# EAGLE library part DIP-BLUE-FEMALE-HEADER-VERT(6P-2.0) (library Seeed-OPL-Connector)
320030044
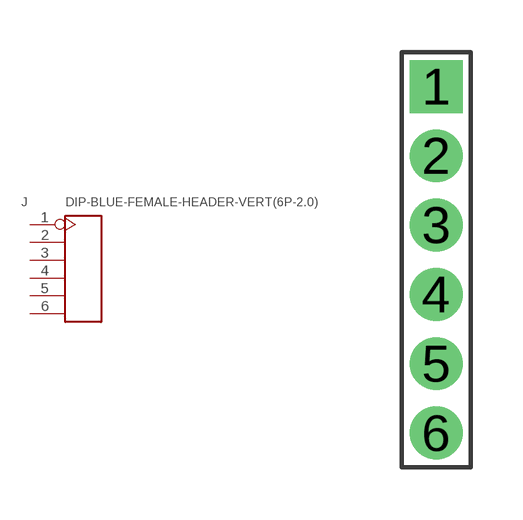
[diagram p162: symbol with the pads of H6-2.0; footprint H6-2.0]

Designator prefix J

## DIP-BLUE-FEMALE-HEADER-VERT(6P-2.0) (MPN: F243-1106A0BSYA5; VALUE: F243-1106A0BSYA5)  [H6-2.0]
1  1
2  2
3  3
4  4
5  5
6  6

## Footprint H6-2.0 (pad centres in mm)
drill 0.813 pad 1.524 square: 1 0,5
drill 0.813 pad 1.524: 2 0,3; 3 0,1; 4 0,-1; 5 0,-3; 6 0,-5